# EAGLE library part USB_AF-020 (library Domino)
USB Type A Socket
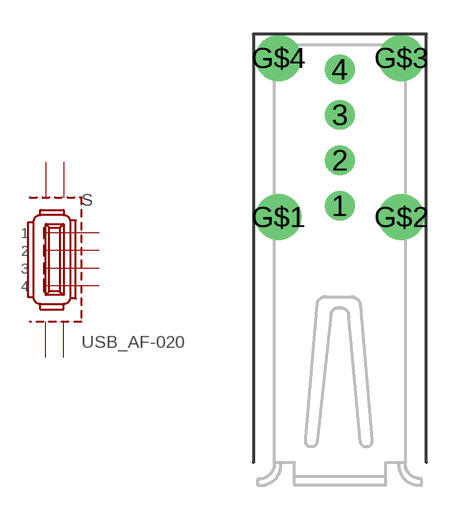
[diagram p13: symbol with the pads of USB_AF-020; footprint USB_AF-020]

Designator prefix S

## USB_AF-020  [USB_AF-020]
1  1  pas
2  2  pas
3  3  pas
4  4  pas
G$1  G  pas
G$2  G  pas
G$3  G  pas
G$4  G  pas

## Footprint USB_AF-020 (pad centres in mm)
USB Type A R/A T/H Receptacle
drill 0.8: 1 0,2.6; 2 0,4.6; 3 0,6.6; 4 0,8.6
drill 1.35: G$1 -2.7,2.1; G$2 2.7,2.1; G$3 2.7,9.1; G$4 -2.7,9.1